# Altium schematic symbol library AUVic_Integrated_Library_Interface.SchLib: 13 symbols
Pins are listed as number, name and electrical type; pins without a type are passive.

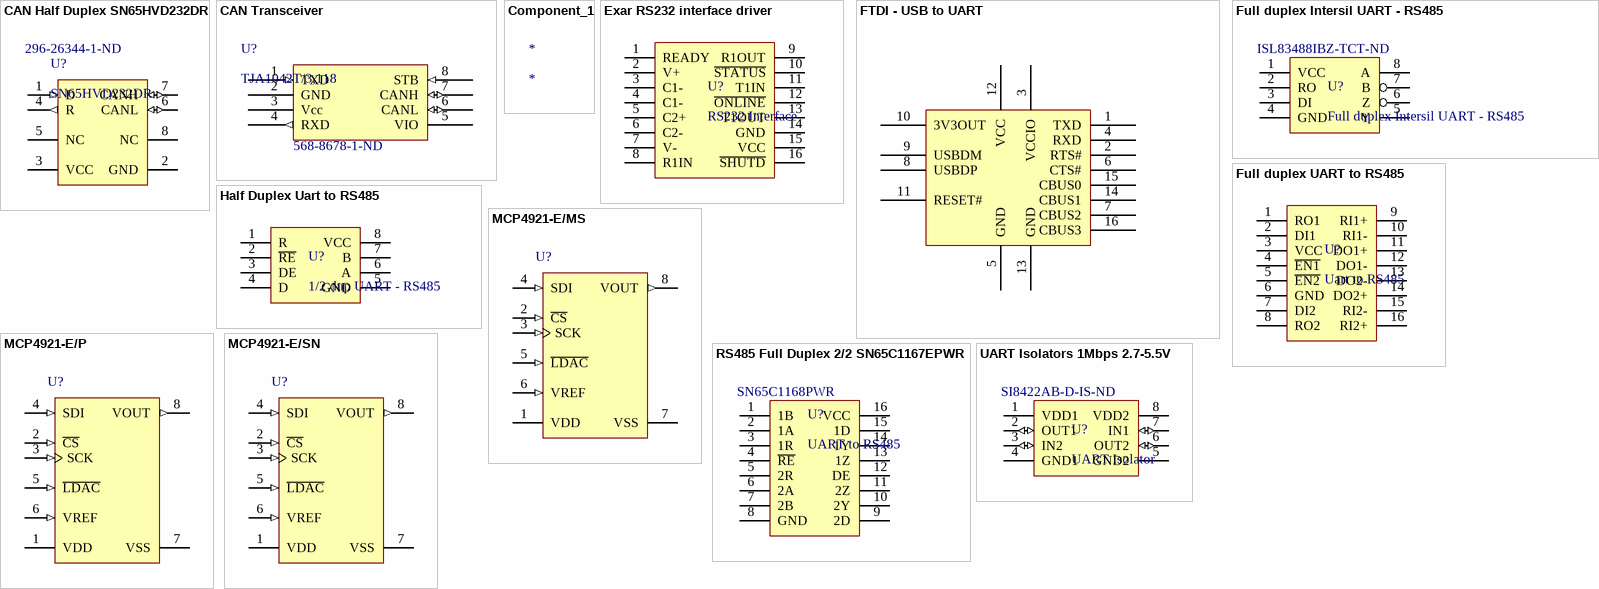
[diagram p0: symbols CAN Half Duplex SN65HVD232DR to UART Isolators 1Mbps 2.7-5.5V]

## CAN Half Duplex SN65HVD232DR
designator U?, comment SN65HVD232DR  Supplier Part Number 1: 296-26344-1-ND
IC CAN TRANSCEIVER 3.3V 8-SOIC; Made by: Robert Keen; ComponentLink1Description: Digikey; ComponentLink1URL: https://www.digikey.ca/product-detail/en/texas-instruments/SN65HVD232DR/296-26344-1-ND/2254978; Supplier 1: Digi-Key; Made on: 2018-08-14
footprint 8-SOIC (SOIC, 8-Leads, Body 5x4mm, Pitch 1.27mm, IPC Low Density)
pins: 1 D (in) "Driver input", 2 GND (power) "Ground", 3 VCC (power) "Supply voltage", 4 R (out) "Receiver output", 5 NC "No connection", 6 CANL (io) "Low bus output", 7 CANH (io) "High bus outpu", 8 NC "No connection"

## CAN Transceiver
designator U?, comment TJA1042T/3,118  Supplier Part Number 1: 568-8678-1-ND
1/1 Transceiver Half CANbus 8-SO; Made by: Poorna Chander Kalidas; ComponentLink1Description: Digikey; ComponentLink1URL: https://www.digikey.ca/product-detail/en/texas-instruments/SN65HVD232DR/296-26344-1-ND/2254978; Supplier 1: Digi-Key
footprint 8-SOIC (SOIC, 8-Leads, Body 5x4mm, Pitch 1.27mm, IPC Low Density)
pins: 1 TXD (in) "CAN TX", 2 GND (power), 3 Vcc (power), 4 RXD (out) "CAN RX", 5 VIO "Split or IO Voltage", 6 CANL (io) "CAN Low", 7 CANH (io) "Low bus output", 8 STB (in) "Standby"

## Component_1
designator *

## Exar RS232 interface driver
designator U?, comment RS232 Interface
Made By: Andy Bates; Supplier 1: Digikey; Supplier 1 Part Number: 1016-1506-5-ND
footprint TSSOP16
pins: 1 READY, 2 V+, 3 C1-, 4 C1-, 5 C2+, 6 C2-, 7 V-, 8 R1IN, 9 R1OUT, 10 ~{STATUS}, 11 T1IN, 12 ~{ONLINE}, 13 T1OUT, 14 GND, 15 VCC, 16 ~{SHUTD}

## FTDI - USB to UART
designator U?, comment FT230X  Supplier Part Number 1: 768-1135-1-ND
Supplier 1: Digi-Key; Created by: Gabriel Green; Created on: July 5th, 2017
footprint SSOP16
pins: 1 TXD, 2 RTS#, 3 VCCIO, 4 RXD, 5 GND, 6 CTS#, 7 CBUS2, 8 USBDP, 9 USBDM, 10 3V3OUT, 11 RESET#, 12 VCC, 13 GND, 14 CBUS1, 15 CBUS0, 16 CBUS3

## Full duplex Intersil UART - RS485
designator U?  Supplier Part Number 1: ISL83488IBZ-TCT-ND
Made By: Andy Bates; Created On: 2016/09/08; Supplier 1: Digi-Key
pins: 1 VCC, 2 RO, 3 DI, 4 GND, 5 Y, 6 Z, 7 B, 8 A

## Full duplex UART to RS485
designator U?, comment Uart to RS485
UART to RS485 converter; Made By: Andy Bates; Supplier 1: Digikey; Supplier 1 Part Number: 296-38935-1-ND
footprint SOIC-16
pins: 1 RO1, 2 DI1, 3 VCC, 4 ~{EN1}, 5 ~{EN2}, 6 GND, 7 DI2, 8 RO2, 9 RI1+, 10 RI1-, 11 DO1+, 12 DO1-, 13 DO2-, 14 DO2+, 15 RI2-, 16 RI2+

## Half Duplex Uart to RS485
designator U?, comment 1/2 dup UART - RS485
Made By: Andy Bates; Supplier 1: Digikey; Supplier 1 Part Number: 497-3734-1-ND
footprint SOIC-SN8_M (SOIC, 8-Leads, Body 4.9x3.8mm, Pitch 1.27mm, IPC Low Density)
pins: 1 R, 2 ~{RE}, 3 DE, 4 D, 5 GND, 6 A, 7 B, 8 VCC

## MCP4921-E/MS
designator U?
12-Bit DAC with SPI Interface, 8-Pin MSOP, Extended Temperature; Manufacturer: Microchip; PartNumber: MCP4921-E/MS; DatasheetVersion: revA, Apr-2010; PackageVersion: revBB, Aug-2009; PackageReference: MSOP-MS8; PackageDescription: 8-Lead Plastic Micro Small Outline Package (MS) [MSOP]; Supplier 1: Digi-Key; Supplier Part Number 1: MCP4921-E/MS-ND; Supplier 2: Newark; Supplier Part Number 2: 08J8742; Supplier 3: Mouser; Supplier Part Number 3: 579-MCP4921-E/MS; Mounting Technology: Surface Mount; ComponentLink1Description: Manufacturer URL; ComponentLink1URL: http://www.microchip.com/; ComponentLink2Description: Datasheet; ComponentLink2URL: http://ww1.microchip.com/downloads/en/DeviceDoc/22248a.pdf; ComponentLink3Description: Package Specification; ComponentLink3URL: http://www.microchip.com/stellent/groups/techpub_sg/documents/packagingspec/en012702.pdf
footprint MSOP-MS8_N (TSOP, 8-Leads, Body 3x3mm, Pitch 0.65mm, IPC Medium Density)
footprint MSOP-MS8_L (TSOP, 8-Leads, Body 3x3mm, Pitch 0.65mm, IPC High Density)
footprint MSOP-MS8_M (TSOP, 8-Leads, Body 3x3mm, Pitch 0.65mm, IPC Low Density)
pins: 1 VDD (power), 2 ~{CS} (in), 3 SCK (in), 4 SDI (in), 5 ~{LDAC} (in), 6 VREF (in), 7 VSS (power), 8 VOUT (out)

## MCP4921-E/P
designator U?
12-Bit DAC with SPI Interface, 8-Pin PDIP, Extended Temperature; Manufacturer: Microchip; PartNumber: MCP4921-E/P; DatasheetVersion: revA, Apr-2010; PackageVersion: revBB, Aug-2009; PackageReference: PDIP300-P8; PackageDescription: 8-Lead Plastic Dual In-Line (P) - 300 mil Body [PDIP]; Supplier 1: Digi-Key; Supplier Part Number 1: MCP4921-E/P-ND; Supplier 2: Newark; Supplier Part Number 2: 08J8743; Supplier 3: Mouser; Supplier Part Number 3: 579-MCP4921-E/P; Mounting Technology: Through Hole; Code_JEDEC: MS-001; ComponentLink1Description: Manufacturer URL; ComponentLink1URL: http://www.microchip.com/; ComponentLink2Description: Datasheet; ComponentLink2URL: http://ww1.microchip.com/downloads/en/DeviceDoc/22248a.pdf; ComponentLink3Description: Package Specification; ComponentLink3URL: http://www.microchip.com/stellent/groups/techpub_sg/documents/packagingspec/en012702.pdf
footprint PDIP300-P8 (DIP, 8-Leads, Row Spacing 7.62mm, Pitch 2.54mm, Body 9.5x6.6mm)
pins: 1 VDD (power), 2 ~{CS} (in), 3 SCK (in), 4 SDI (in), 5 ~{LDAC} (in), 6 VREF (in), 7 VSS (power), 8 VOUT (out)

## MCP4921-E/SN
designator U?
12-Bit DAC with SPI Interface, 8-Pin SOIC 150mil, Extended Temperature; Manufacturer: Microchip; PartNumber: MCP4921-E/SN; DatasheetVersion: revA, Apr-2010; PackageVersion: revBB, Aug-2009; PackageReference: SOIC-SN8; PackageDescription: 8-Lead Plastic Small Outline (SN) - Narrow, 3.90mm Body [SOIC]; Supplier 1: Digi-Key; Supplier Part Number 1: MCP4921-E/SN-ND; Supplier 2: Newark; Supplier Part Number 2: 08J8744; Supplier 3: Mouser; Supplier Part Number 3: 579-MCP4921-E/SN; Mounting Technology: Surface Mount; Code_JEDEC: MS-012; Code_IPC: SOIC127P600-8; ComponentLink1Description: Manufacturer URL; ComponentLink1URL: http://www.microchip.com/; ComponentLink2Description: Datasheet; ComponentLink2URL: http://ww1.microchip.com/downloads/en/DeviceDoc/22248a.pdf; ComponentLink3Description: Package Specification; ComponentLink3URL: http://www.microchip.com/stellent/groups/techpub_sg/documents/packagingspec/en012702.pdf
footprint SOIC-SN8_N (SOIC, 8-Leads, Body 4.9x3.8mm, Pitch 1.27mm, IPC Medium Density)
footprint SOIC-SN8_L (SOIC, 8-Leads, Body 4.9x3.8mm, Pitch 1.27mm, IPC High Density)
footprint SOIC-SN8_M (SOIC, 8-Leads, Body 4.9x3.8mm, Pitch 1.27mm, IPC Low Density)
pins: 1 VDD (power), 2 ~{CS} (in), 3 SCK (in), 4 SDI (in), 5 ~{LDAC} (in), 6 VREF (in), 7 VSS (power), 8 VOUT (out)

## RS485 Full Duplex 2/2 SN65C1167EPWR
designator U?, comment UART to RS485  Supplier Part Number 1: SN65C1168PWR
Dual Full Duplex UART to RS485 converter, low current; Made By: Andy Bates; Supplier 1 Part Number: 296-14348-1-ND; Supplier 1: Arrow
footprint TSSOP16
pins: 1 1B, 2 1A, 3 1R, 4 ~{RE}, 5 2R, 6 2A, 7 2B, 8 GND, 9 2D, 10 2Y, 11 2Z, 12 DE, 13 1Z, 14 1Y, 15 1D, 16 VCC

## UART Isolators 1Mbps 2.7-5.5V
designator U?, comment UART Isolator  Supplier Part Number 1: SI8422AB-D-IS-ND
UART Isolators 1/1 1Mbps; Made By: Andy Bates; Created On: 2017/09/10; Supplier 1: Digi-Key
footprint SOIC-SN8_M (SOIC, 8-Leads, Body 4.9x3.8mm, Pitch 1.27mm, IPC Low Density)
pins: 1 VDD1 (power), 2 OUT1 (io), 3 IN2 (io), 4 GND1 (power), 5 GND2 (power), 6 OUT2 (io), 7 IN1 (io), 8 VDD2 (power)